# Altium footprint library bg_pcb.PcbLib: 61 footprints (part 2 of 4)
Each footprint in its own frame and in the unit in brackets; x right, y up, seen from the top. Pads: shape width x height; smd on the part's side, far side on the other; paste and mask are expansions set on the pad; w line width, h text height; cw(c..) or ccw(c..) is an arc to the next point about the centre after c.
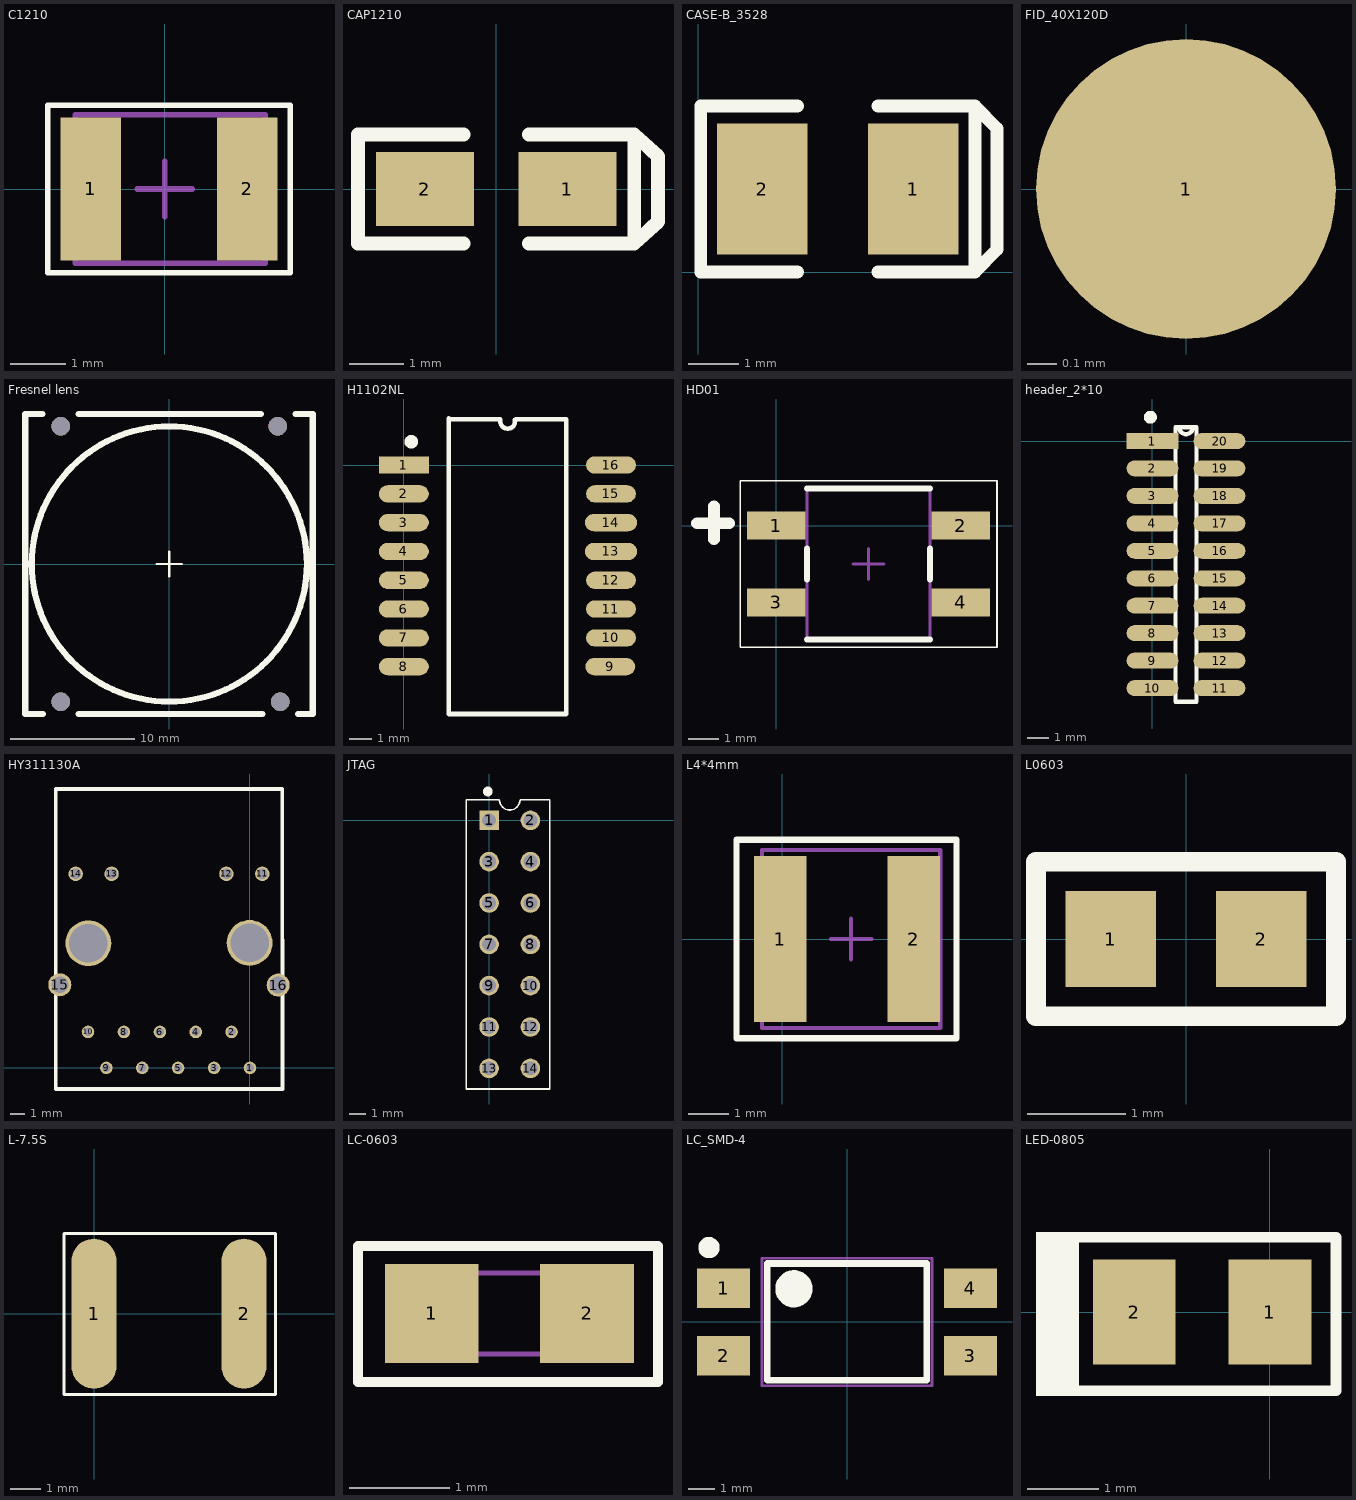
[diagram p1: the footprints below, top view; thin cyan lines are the x and y axes]

## C1210 [mm] "Chip Capacitor, Body 3.2x2.5mm, IPC High Density"
height 1.3
pads (2):
  rect 1.1x2.6 smd: 1(-1.35,0) 2(1.5,0)
Top Overlay:
  lines w0.1: -2.125,-1.525 -2.125,1.525 2.275,1.525 2.275,-1.525 -2.125,-1.525
Mechanical 13:
  lines w0.1: -1.625,-1.35 1.825,-1.35 1.825,1.35 -1.625,1.35 -1.625,-1.35
Mechanical 15:
  lines w0.1: -0.5,0 0.5,0 ; 0,-0.5 0,0.5
3D body: height 1.3, standoff 0, extent -1.6,-1.35 1.8,1.35

## CAP1210 [mm]
pads (2):
  rect 1.8x1.35 smd: 1(1.31,0) 2(-1.31,0)
Top Overlay:
  lines w0.254: -0.6,-1.002 -2.537,-1.002 -2.537,1.002 -0.6,1.002 ; 0.6,-1.002 2.537,-1.002 ; 0.6,1.002 2.537,1.002 ; 2.537,-1.002 2.973,-0.6 2.973,0.6 2.537,1.002 ; 2.537,-1.002 2.537,1.002
3D body "User Library-AVX_ACASE.STEP": height 1.71, standoff 0, extent -1.7,-0.84 1.7,0.84

## CASE-B_3528 [mm]
pads (2):
  rect 1.8x2.6 smd: 1(4.275,1.65) 2(1.275,1.65)
Top Overlay:
  lines w0.254: 1.975,0 0.048,0 0.048,3.3 1.975,3.3 ; 3.575,0 5.502,0 ; 3.575,3.3 5.502,3.3 ; 5.502,0 5.502,3.3 ; 5.502,0 5.938,0.45 5.938,2.85 5.502,3.3
3D body "User Library-AVX_BCASE.STEP": height 2.03, standoff 0, extent 0.925,0.185 4.625,3.115

## FID_40X120D [mil]
pads (1):
  round 40 smd paste-40 mask+40: 1(0,0)

## Fresnel lens [mm] "菲涅尔透镜(透镜的中心要和红外传感器的中心对准)"
via -8.75,11.1 diameter 1.5 hole 1.5
via 8.75,11.1 diameter 1.5 hole 1.5
via 8.95,-11.1 diameter 1.5 hole 1.5
via -8.75,-11.1 diameter 1.5 hole 1.5
Top Overlay:
  circle w0.5: c0,0 r11.1
  lines w0.2: -1,0 1,0 ; 0,-1 0,1
  lines w0.5: -10.225,12.1 -11.625,12.1 -11.625,0 -11.625,-12.1 -10.2,-12.1 ; -7.3,-12.1 7.5,-12.1 ; -7.3,12.1 7.4,12.1 ; 10.2,12.1 11.575,12.1 11.575,0 11.575,-12.1 10.375,-12.1

## H1102NL [mm]
pads (16):
  rect 2.2x0.76 smd: 1(0,0)
  oval 2.2x0.76 smd: 2(0,-1.27) 3(0,-2.54) 4(0,-3.81) 5(0,-5.08) 6(0,-6.35) 7(0,-7.62) 8(0,-8.89) 9(9.1,-8.89) 10(9.13,-7.62) 11(9.13,-6.35) 12(9.13,-5.08) 15(9.13,-1.27) 16(9.13,0)
  oval 2.3x0.76 smd: 13(9.13,-3.81) 14(9.13,-2.54)
Top Overlay:
  circle w0.3: c0.325,1.025 r0.15
  lines w0.2: 1.97,-10.945 1.97,2.055 ; 1.972,2.025 4.25,2.025 ; 1.975,-10.975 7.165,-10.975 ; 4.257,1.99 ccw(c4.575,1.925) 4.893,1.99 ; 4.925,2.025 7.153,2.025 ; 7.16,-10.97 7.16,0.635 7.16,1.985

## HD01 [mm] "SOT143, 4-Leads, Body 4.70x7.00mm, Pitch 2.50mm, IPC Medium Density"
height 2.7
pads (4):
  rect 1.9x0.9 smd: 1(0,0) 2(6,0) 3(0,-2.5) 4(6,-2.5)
Top Overlay:
  lines w0.05: -1.175,-3.95 7.175,-3.95 7.175,1.45 -1.175,1.45 -1.175,-3.95
  lines w0.2: 1,-3.7 5,-3.7 ; 1,-1.75 1,-0.75 ; 1,1.2 5,1.2 ; 5,-1.75 5,-0.75
  lines w0.381: -2.575,0.075 -1.525,0.075 ; -2.025,-0.45 -2.025,0.625
Mechanical 13:
  lines w0.1: 1,-3.7 1,1.2 5,1.2 5,-3.7 1,-3.7
Mechanical 15:
  lines w0.1: 2.5,-1.25 3.5,-1.25 ; 3,-1.75 3,-0.75
3D body: height 2.7, standoff 0.15, extent 1,-3.7 5,1.2

## header_2*10 [mm]
pads (20):
  rect 2.4x0.74 smd: 1(0,0)
  oval 2.4x0.74 smd: 2(0,-1.27) 3(0,-2.54) 4(0,-3.81) 5(0,-5.08) 6(0,-6.35) 7(0,-7.62) 8(0,-8.89) 9(0,-10.16) 10(0,-11.43) 11(3.1,-11.43) 12(3.1,-10.16) 13(3.1,-8.89) 14(3.1,-7.62) 15(3.1,-6.35) 16(3.1,-5.08) 17(3.1,-3.81) 18(3.1,-2.54) 19(3.1,-1.27) 20(3.1,0)
Top Overlay:
  circle w0.3: c-0.1,1.1 r0.15
  lines w0.2: 1.065,-12.065 1.065,0.635 1.867,0.635 cw(c1.55,0.635) 1.232,0.635 2.035,0.635 2.035,-12.065 1.065,-12.065

## HY311130A [mm]
pads (18):
  round 0.89 hole 0.6: 1(0,0) 2(-1.3,2.55) 3(-2.55,0) 4(-3.85,2.55) 5(-5.1,0) 6(-6.4,2.55) 7(-7.65,0) 8(-8.95,2.55) 9(-10.2,0) 10(-11.5,2.55)
  round 1.02 hole 0.762: 11(0.875,13.775) 12(-1.675,13.775) 13(-9.825,13.775) 14(-12.375,13.775)
  round 1.63 hole 1.2: 15(-13.5,5.9) 16(2,5.875)
  round 3.25 hole 2.75: ""(-11.475,8.85) ""(-0.025,8.875)
Top Overlay:
  lines w0.254: -13.8,-1.5 2.307,-1.5 2.3,19.8 -13.8,19.8 -13.8,-1.5

## JTAG [mm]
pads (14):
  rect 1.2x1.2 hole 0.85: 1(0,0)
  round 1.2 hole 0.85: 2(2.54,0) 3(0,-2.54) 4(2.54,-2.54) 5(0,-5.08) 6(2.54,-5.08) 7(0,-7.62) 8(2.54,-7.62) 9(0,-10.16) 10(2.54,-10.16) 11(0,-12.7) 12(2.54,-12.7) 13(0,-15.24) 14(2.54,-15.24)
Top Overlay:
  circle w0.3: c-0.075,1.775 r0.15
  lines w0.1: -1.4,-16.51 3.725,-16.51 3.725,1.27 1.905,1.27 cw(c1.27,1.27) 0.635,1.27 -1.4,1.27 -1.4,-16.51

## L4*4mm [mm] "Precision Wire Wound Inductor, 2-Leads, Body 4.40x4.40mm, IPC Medium Density"
height 1.1
pads (2):
  rect 1.3x4.1 smd: 1(-0.05,0) 2(3.25,0)
Top Overlay:
  lines w0.152: -1.125,-2.45 4.3,-2.45 4.3,2.45 -1.125,2.45 -1.125,-2.45
Mechanical 13:
  lines w0.1: -0.5,-2.2 3.9,-2.2 3.9,2.2 -0.5,2.2 -0.5,-2.2
Mechanical 15:
  lines w0.1: 1.2,0 2.2,0 ; 1.7,-0.5 1.7,0.5
3D body: height 1.1, standoff 0, extent -0.5,-2.2 3.9,2.2

## L0603 [mm]
pads (2):
  rect 0.93x0.98 smd: 1(-0.77,0) 2(0.77,0)
Top Overlay:
  lines w0.2: -1.535,-0.79 1.535,-0.79 1.535,0.79 -1.535,0.79 -1.535,-0.79
3D body "L0603.STEP": height 0.46, standoff -0.01, extent -0.825,-0.412 0.825,0.413

## L-7.5S [mm]
pads (2):
  oval 1.5x5 smd: 1(0,0) 2(5,0)
Top Overlay:
  lines w0.1: -1,-2.7 6.05,-2.7 6.05,2.675 -1,2.675 -1,1.475 -1,-2.7

## LC-0603 [mm]
pads (2):
  rect 0.93x0.98 smd: 1(-110.644,129.455) 2(-109.104,129.455)
Top Overlay:
  lines w0.1: -111.375,128.775 -108.4,128.775 -108.4,130.125 -111.375,130.125 -111.375,128.775
Mechanical 13:
  lines w0.05: -110.674,129.055 -109.074,129.055 -109.074,129.855 -110.674,129.855 -110.674,129.055

## LC_SMD-4 [mm]
height 4
pads (4):
  rect 2x1.5 smd: 1(-4.65,1.27) 2(-4.65,-1.27) 3(4.65,-1.27) 4(4.65,1.27)
Top Overlay:
  circle w0.4: c-5.2,2.8 r0.2
  circle w0.7: c-2,1.25 r0.35
  lines w0.254: -3,-2.2 -3,2.2 3,2.2 3,-2.2 -3,-2.2
Mechanical 13:
  lines w0.1: -3.2,-2.4 3.2,-2.4 3.2,2.4 -3.2,2.4 -3.2,-2.4
3D body "User Library-DIP4_opto_iso.STEP": height 3.9, standoff 0, extent -5.015,-2.416 5.015,2.416

## LED-0805 [mm] "Chip Capacitor, Body 2.0x1.3mm, IPC High Density"
height 1.4
pads (2):
  rect 1.16x1.47 smd: 1(0,0) 2(-1.9,0)
Top Overlay:
  rectangle: -3.275,-1.175 -2.925,1.125
  rectangle: -3.025,-1.175 -2.675,1.125
  lines w0.152: -2.875,1.05 0.925,1.05 0.925,-1.1 ; -2.75,-1.1 0.89,-1.1